# EAGLE library part ESP-12 (library custom)
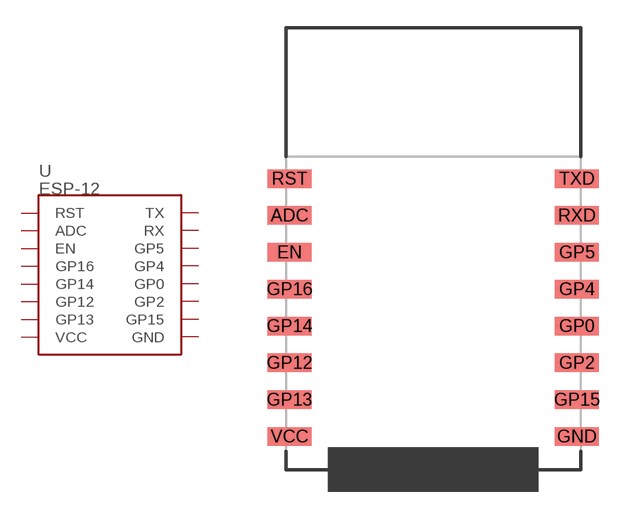
[diagram p112: symbol with the pads of ESP-12; footprint ESP-12]

Designator prefix U

## ESP-12  [ESP-12]
ADC  ADC
EN  EN
GND  GND
GP0  GP0
GP2  GP2
GP4  GP4
GP5  GP5
GP12  GP12
GP13  GP13
GP14  GP14
GP15  GP15
GP16  GP16
RST  RST
RXD  RX
TXD  TX
VCC  VCC

## Footprint ESP-12 (pad centres in mm)
smd 2.4 x 1: ADC -7.8,1.8; EN -7.8,-0.2; GND 7.8,-10.2; GP0 7.8,-4.2; GP2 7.8,-6.2; GP4 7.8,-2.2; GP5 7.8,-0.2; GP12 -7.8,-6.2; GP13 -7.8,-8.2; GP14 -7.8,-4.2; GP15 7.8,-8.2; GP16 -7.8,-2.2; RST -7.8,3.8; RXD 7.8,1.8; TXD 7.8,3.8; VCC -7.8,-10.2